# EAGLE library part TJ1513MTBD (library df4iah_gps)
TJ1513MTBD based on MediaTek MT3333 Many brands like: MediaTek, SkyLab, T.JWL and others GNSS Receiver Module for GPS, QZSS, Galileo and Beidou data entry: 2017-01-30 by DF4IAH.
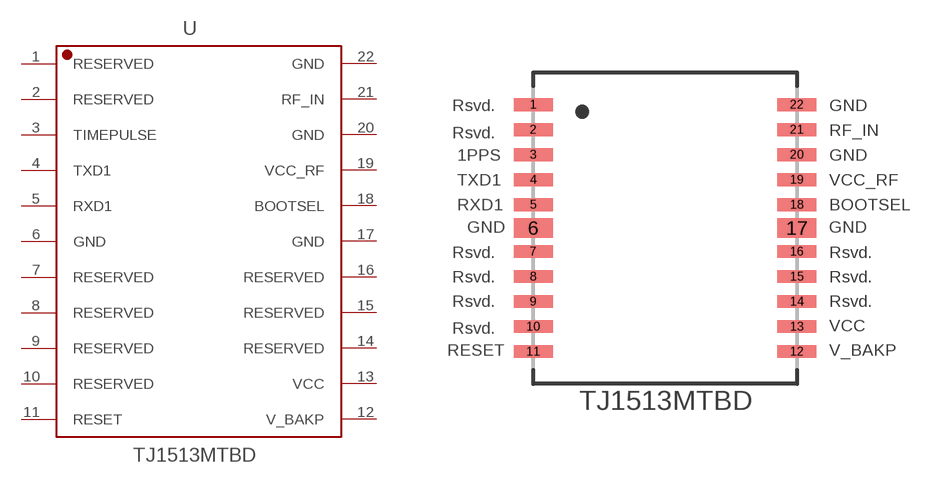
[diagram p1: symbol with the pads of TJ1513MTBD; footprint TJ1513MTBD]

Designator prefix U

## TJ1513MTBD (OC_ALIBABA: TJ1513MTBD; OC_FARNELL: -; OC_NEWARK: -)  [TJ1513MTBD]
1  RESERVED  nc
2  RESERVED  nc
3  TIMEPULSE  out
4  TXD1  out
5  RXD1  in
6  GND  pwr
7  RESERVED  nc
8  RESERVED  nc
9  RESERVED  nc
10  RESERVED  nc
11  RESET  pas
12  V_BAKP  pwr
13  VCC  pwr
14  RESERVED  nc
15  RESERVED  nc
16  RESERVED  nc
17  GND  pwr
18  BOOTSEL  in
19  VCC_RF  out
20  GND  pwr
21  RF_IN  in
22  GND  pwr

## Footprint TJ1513MTBD (pad centres in mm)
TJ1513MTBD based on MediaTek MT3333 Many brands like: MediaTek, SkyLab, T.JWL and others GNSS Receiver Module for GPS, QZSS, Galileo and Beidou data entry: 2017-01-30 by DF4IAH.
smd 2 x 0.65: 1 -6.75,6.32; 2 -6.75,5.04; 3 -6.75,3.76; 4 -6.75,2.48; 5 -6.75,1.2; 7 -6.75,-1.2; 8 -6.75,-2.48; 9 -6.75,-3.76; 10 -6.75,-5.04; 11 -6.75,-6.32; 12 6.75,-6.32; 13 6.75,-5.04; 14 6.75,-3.76; 15 6.75,-2.48; 16 6.75,-1.2; 18 6.75,1.2; 19 6.75,2.48; 20 6.75,3.76; 21 6.75,5.04; 22 6.75,6.32
smd 2 x 1: 6 -6.75,0; 17 6.75,0